# Altium schematic symbol library h_sensor_safety.SchLib: 56 symbols
Pins are listed as number, name and electrical type; pins without a type are passive.

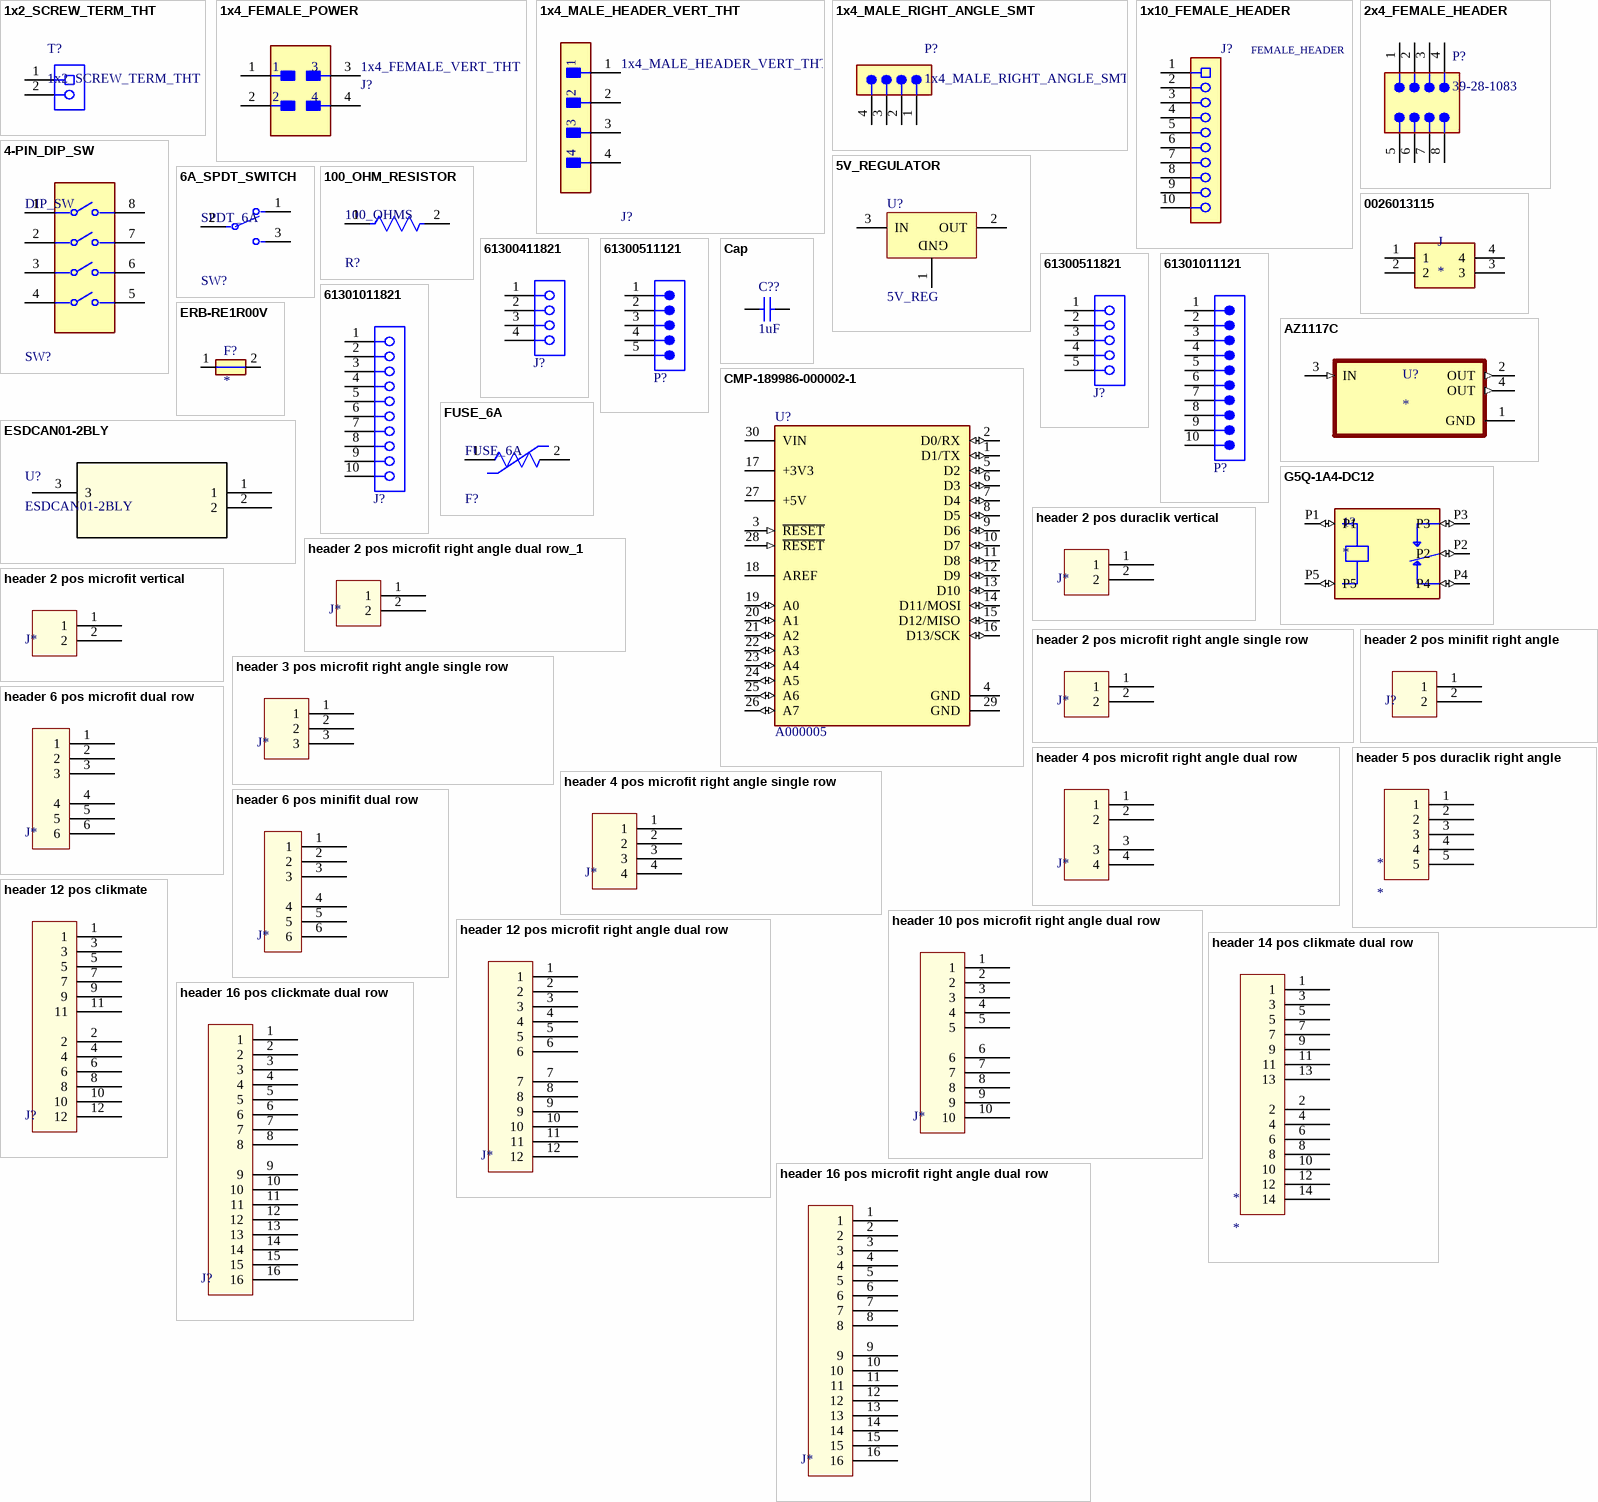
[diagram p0: symbols 1x2_SCREW_TERM_THT to header 16 pos microfit right angle dual row]

## 1x2_SCREW_TERM_THT
designator T?
PCB Terminal Block, 13.5 A, 400 V, 2-Pin THD, RoHS, Bulk. CMP-2000-05815-1. 1729128; Manufacturer: Phoenix Contact; Package Version: 03/2015; No. of Rows: 1; Pitch: 5.08mm; No. of Positions: 2; Voltage Rating: 400V; Current Rating: 13500mA; Packing: Bulk; Manufacturer URL: http://www.phoenixcontact.com/; Datasheet URL: https://datasheet.ciiva.com/16046/1729128-16046181.pdf; RoHS: TRUE; Package URL: https://www.phoenixcontact.com/online/portal/pi/pxc/product_detail_page/!ut/p/b1/3VdJjqNKFDxLH8AFycySyWY2ozFsEPOMMQaDOX1XedGL_1Vdm5YXJleknhSKeBkvI6EA8ncAo3AYoDhBQGco6KN7VURTdemj9us_IEKEZo_YHiPAEWEFmDGOHMORkqKYCORBZxgL7ZoaZYcbFFUZ3fqxSY6GOuxydWUuHqz1ynmMFygu583Bob0Ewr6Sd_l-5m-kAueHiB0jpRwZwe58wwtkpxtMYd_LmGcDRU02dRNEyWt6Y2ti5pSyJ_reIkzIulrqApdnbT11V5jnCKbYNCvhEM1MCpPByat_X379-iThf08CI5GfOPqfBeS3BRoBOdD55AKVv0iLwCMq-2BrzXWSGRH7pUGD9uwXQjiph3xL0DKQwdGa0JImiIOmBNOestqgwTHSSs2oOep-78apyXQBvNi8ZLaFjvjWvcaUEBu0MC6Wbe-d6mB0FAebo2lUWinqYaZs5DAYzV0RP9yitUjnGJ0iI9xhZkT42OCQNUJJhkgWINNQLP2JFP6OpMg3JCVg70jqHT0lvKOnhHf0lPuOnnLf0VPuWx6_dxwUIvwk5WMkT0kLL1mh61l2yZVSzG3pYV_bqo-mj6uMKwKwdnnW8Jh5RTOJzMOA5c-eJDaZQw4mTMPH02PvS_ZAqNVjVTo2WyYLkwH_KU1mmmG5kjRhDqPXLwwVHvVOjCM60-fpXvTDfMGW1PVFVS1r4e4yVDk4ZdNbkUHvqPqQSeian4UD39fNKmachqdJ1NJbyk8rXT9mXTvPk3oE5meulKGgiruPJek-4I9hTT6G8ZLOyRSm2RRVbThERQad5OS28hdt4YW4vG0stgYYzsWsK4_7y6DZMjJSCqri1kyiZR5vD7pwIrNR7QwPHTcLTI5qT7eRlpHrdGiupYlqQDJ7zy_CND8fWWBoLRXxk1RVcXiBQwbTD4Xi7KL-FuO94t9xaqweXzH; PartNumber: 1729128; Package Description: 2-Pin Through Hole Device, Body 8.1 x 10.16 mm, Pitch 5.08 mm; Datasheet Version: 12/2013; Mounting Technology: ThroughHole; Orientation: Horizontal; Package Reference: 1729128-2
footprint PHOE-1729128-2_V (Receptacle, 2-Leads, Body 8.1x10.16mm, Pitch 5.08mm)
pins: 1, 2

## 1x4_FEMALE_POWER
designator J?, comment 1x4_FEMALE_VERT_THT
CONN HEADER VERT 4POS 4.2MM. 0039281043; Manufacturer: Molex; Conn Orientation: Vertical; Conn Gender: Male; Current Rating: 9A; Voltage Rating: 600V; Number Of Contacts: 4; Pitch: 4.2mm; Manufacturer Part Number: 0039281043; Lead Free: Yes; Category: Conn; Height: 13.1mm; ComponentLink2URL: https://www.molex.com/webdocs/datasheets/pdf/en-us/0039281043_PCB_HEADERS.pdf; Package: 0; Device Class L2: Headers and Wire Housings; Contact Material: Tin; Footprint Url: https://www.molex.com/pdm_docs/sd/039281043_sd.pdf; Device Class L1: Connectors; Temperature Range High: +105°C; Automotive: No; RoHS: TRUE; Temperature: -40°C to +105°C; Number Of Rows: 2; Digikey Description: CONN HEADER VERT 4POS 4.2MM; Temperature Range Low: -40°C; Octopart: https://octopart.com/39-28-1043-molex-7613; Device Class L3: unset; ComponentLink2Description: Datasheet
footprint FP-0039281043-MFG
pins: 1, 2, 3, 4

## 1x4_MALE_HEADER_VERT_THT
designator J?
CONN HEADER VERT 4POS 2.54MM. CMP-04776-000290-1. 47053-1000; Number of Positions: 4; Voltage Rating (DC): 250V; Gender: Male; Pitch: 2.54mm; Current Rating: 4A; Glow Wire Compliant: Non-compliant; Contact Material: Brass; Contact Plating: Tin; Radiation Hardening: No; Package Quantity: 12000; Packaging: Bulk; Termination: Through Hole; Depth: 5.84mm; Series: 47053; Number of Contacts: 4; Length: 10.2mm; Halogen Free: Low Halogen; Number of Circuits: 4; Max Operating Temperature: 75°C; Housing Color: Beige; Min Operating Temperature: 0°C; Number of Rows: 1; Housing Material: Nylon; Orientation: Vertical; Mount: Through Hole; Voltage Rating: 250V; ComponentLink1Description: Datasheet; ComponentLink1URL: https://www.molex.com/pdm_docs/sd/470531000_sd.pdf
footprint FP-47053-1000-MFG
pins: 1, 2, 3, 4

## 1x4_MALE_RIGHT_ANGLE_SMT
designator P?
NEOPIXEL_FANLIGHT. 0.025" SQ Post Header, Surface Mount, Horizontal, -55 to 125 degC, 2.54 mm Pitch, 4-Pin, Male, RoHS. TSM-104-01-L-SH; Manufacturer: Samtec; Pitch: 2.54 mm; Orientation: Horizontal; DatasheetVersion: F-214; PackageVersion: CD, 7/1991; Temperature Range: -55 to 125 degC; ComponentLink2URL: http://www.samtec.com/documents/webfiles/pdf/TSM.PDF; ComponentLink3URL: http://www.samtec.com/documents/webfiles/cpdf/TSM-1XX-XX-XXX-SH-XX-XXX-XX-MKT1.pdf; PartNumber: TSM-104-01-L-SH; ComponentLink2Description: Datasheet; ComponentLink3Description: Package Specification; PackageReference: TSM-104-01-X-SH; PackageDescription: Terminal Strip Single Surface Mount; ComponentLink1Description: Manufacturer URL; RoHS: True; Mounting Technology: Surface Mount; ComponentLink1URL: http://www.samtec.com
footprint SMTC-TSM-104-01-X-SH (Terminal Strip Single Surface Mount, 1x4 Pins, Horizontal, 2.54mm Pitch, Male)
pins: 1, 2, 3, 4

## 1x10_FEMALE_HEADER
designator J?, comment FEMALE_HEADER
THT Vertical Socket Header WR-PHD, Pitch 2.54 mm, Single Row, 10 pins. CMP-1502-01332-1. 61301011821; Manufacturer: Wurth Elektronik; Rated Current: 3A; Working Voltage: 250VAC; Gender: Female; Pitch: 2.54mm; Contact Resistance: 20mOhm; Pin Number: 10; Withstanding Voltage: 500VAC; Publisher: WurthElektronik; Orientation: Vertical; Row Number: Single; Package Reference: 61301011821; Packaging: Tray; Datasheet URL: https://katalog.we-online.de/em/datasheet/6130xx11821.pdf; Operating Temperature: -40to125degC; Part Number: 61301011821; Manufacturer URL: http://www.we-online.de; Mounting Technology: THT
footprint 61301011821 (Socket Header, Pitch 2.54 mm, THT, Vertical, single row, 10p)
pins: 1, 2, 3, 4, 5, 6, 7, 8, 9, 10

## 2x4_FEMALE_HEADER
designator P?, comment 39-28-1083
4.2 mm Pitch Mini-Fit Jr.Power Connector, Vertical, Through Hole, 8 Circuits, -40 to 105 degC, RoHS, Bag. CMP-1594-00002-1; No. of Rows: 2; Pitch: 4.2 mm; No. of Positions: 8; Packing: Bag; Temperature Max: 105 degC; Orientation: Vertical; ComponentLink3Description: Package Specification; Mounting Technology: Surface Mount; PartNumber: 39-28-1083; ComponentLink1Description: Manufacturer URL; ComponentLink2Description: Datasheet; PackageVersion: Rev. F, 06/2009; Temperature Min: -40 degC; RoHS: TRUE; ComponentLink2URL: http://www.molex.com/webdocs/datasheets/pdf/en-us/0039281083_PCB_HEADERS.pdf; ComponentLink3URL: http://www.molex.com/pdm_docs/sd/039281083_sd.pdf; ComponentLink1URL: http://www.molex.com/; PackageDescription: 8-Pin PCB Header, Vertical, Pitch 4.2 mm, Through Hole
footprint MOLX-39-28-1083_V (PCB Header, 8-Leads, Vertical, Pitch 4.2 mm, Through Hole)
pins: 1, 2, 3, 4, 5, 6, 7, 8

## 4-PIN_DIP_SW
designator SW?, comment DIP_SW
SWITCH SLIDE DIP SPST 100MA 24V. CMP-03400-000022-1. 1825360-3; Max Voltage Rating (DC): 24V; Washable: Yes; Contact Current Rating: 1A; Electrical Life: 1000Cycles; Number of Circuits: 4; Pitch: 0.1inch; Actuator Length: 0.99mm; Contact Resistance: 50mR; Actuator Type: Standard; Contact Post Length: 4mm; Voltage Rating (DC): 5V; Actuator Material: Polybutylene; Sealable: No (Without); Throw Configuration: SPST; Mount: Through Hole; Type: Switch; RoHS Compliant: Yes; Min Operating Temperature: -30°C; Max Operating Temperature: 85°C; Orientation: Straight; Packaging: Rail/Tube; Series: ADE; Lead Free: Lead Free; Depth: 7.49mm; Flammability Rating: UL94 V-0; Radiation Hardening: No; Terminal Pitch: 2.54mm; Package Quantity: 35; Contact Material: Copper Alloy; Housing Color: Black; Number of Positions: 4; Length: 0.476inch; ELV: Compliant; Termination: PC Pins; Housing Material: Polyphenylene; Contact Plating: Gold; Max Current Rating: 100mA; Height: 0.138inch; ComponentLink1Description: Datasheet; ComponentLink1URL: https://www.ctscorp.com/wp-content/uploads/209-210.pdf
footprint FP-1825360-3-MFG
pins: 1, 2, 3, 4, 5, 6, 7, 8

## 5V_REGULATOR
designator U?, comment 5V_REG
3A, Low Drop Positive Voltage Regulator, 5V, 3-Pin TO-220. CMP-0244-00494-1. LD1085V50; ComponentLink1URL: http://www.st.com; PackageDescription: TO, Thru-Hole, Vertical, Heatsink Mounted; 3 In-Line Leads; Pitch 2.54 mm; DatasheetVersion: 28/07/2009; PackageVersion: ver3.0; ComponentLink2URL: https://www.st.com/content/ccc/resource/technical/document/datasheet/d3/84/d5/f6/3c/23/40/7b/CD00001883.pdf/files/CD00001883.pdf/jcr:content/translations/en.CD00001883.pdf; ComponentLink1Description: Manufacturer URL; PackageReference: TO220; ComponentLink2Description: Datasheet; ComponentLink3URL: http://www.st.com/internet/com/TECHNICAL_RESOURCES/TECHNICAL_LITERATURE/PACKAGE_INFORMATION/CD00004649.pdf; ComponentLink3Description: Package Specification
footprint TO220 (TO, Thru-Hole, Vertical, Heatsink Mounted; 3 In-Line Leads; Pitch 2.54 mm)
pins: 1 GND (power), 2 OUT (power), 3 IN (power)

## 6A_SPDT_SWITCH
designator SW?, comment SPDT_6A
SWITCH SLIDE SPDT 6A 120V. CMP-10038-000019-1. 1101M2S3CQE2; Switch Travel: 2.16mm; Number of Positions: 3; Number of Poles: 1; Approvals: UL; Actuator Length: 5.08mm; Voltage Rating (DC): 28V; Max Voltage Rating (AC): 250V; Insulation Resistance: 1GR; Body Material: Stainless Steel; Actuator Type: Standard; Contact Resistance: 10mR; Voltage Rating (AC): 120V; Switch Function: On-On; Actuator Material: Nylon; Actuator Color: Black; Electrical Life: 40000Cycles; Termination: PC Pins; Packaging: Bulk; Housing Material: Stainless Steel; Flammability Rating: UL94 V-0; Series: 1000; Contact Current Rating: 6A; Length: 12.7mm; Depth: 6.6mm; Orientation: Vertical; Max Current Rating: 6A; Max Operating Temperature: 65°C; Throw Configuration: SPDT; REACH SVHC: No SVHC; Contact Material: Copper; Max Voltage Rating (DC): 28V; Lead Free: Lead Free; Current Rating: 6A; Contact Plating: Silver; Package Quantity: 1; Min Operating Temperature: -30°C; Mount: Through Hole
footprint FP-1101M2S3CQE2-MFG
pins: 1, 2 COMM, 3

## 100_OHM_RESISTOR
designator R?, comment 100_OHMS
RES Thick Film, 100Ω, 1%, 0.063W, 100ppm/°C, 0402. CMP-1011-00397-3. CRCW0402100RFKED; Max Power Dissipation: 63mW; Voltage Rating: 50V; Resistance: 100R; Package Quantity: 10; Lead Free: Lead Free; Termination: SMD/SMT; Case Code (Metric): 1005; Number of Terminations: 2; Composition: Thick Film; Voltage Rating (DC): 50V; Min Operating Temperature: -55°C; Case/Package: 0402; Radiation Hardening: No; Max Operating Temperature: 155°C; Temperature Coefficient: 100ppm/°C; Military Standard: Not; Length: 1mm; Mount: Surface Mount; Power Rating: 63mW; Weight: 2.3E-05oz; Working Voltage: 50V; Features: Automotive AEC-Q200; Depth: 0.5mm; Packaging: Tape and Reel; Tolerance: 1%; Height: 0.35mm; Case Code (Imperial): 0402; Width: 0.02inch; Contact Plating: Tin
footprint FP-CRCW0402-e3-IPC_B
pins: 1, 2

## 0026013115
designator J
Connector Header Through Hole, Right Angle 4 position 0.165 (4.20mm); MP: 0026013115; MF: Molex; Package: None; DigiKey-Purchase-URL: https://snapeda.com/shop?store=DigiKey&id=2597941; Value: *; SnapEDA_Link: https://www.snapeda.com/parts/0026013115/Molex/view-part/2597941/?ref=snap; Price: None; Availability: Unavailable
footprint MOLEX_0026013115
pins: 1, 2, 3, 4

## 61300411821
designator J?  (value not drawn)
WR-PHD Socket Header, THT, Vertical, pitch 2.54mm, 1 Row, 4P; Manufacturer: Wurth Elektronik; Contact Resistance: 20mOhm; Rated Current: 3A; Working Voltage: 250V; Withstanding Voltage: 500V; Manufacturer Part Number: 61300411821; Category: Board-to-Board Connectors; Match Code: WR-PHD; ComponentLink1Description: Website Link; ComponentLink1URL: https://www.we-online.com/redexpert/article/61300411821?ad; ComponentLink2Description: Datasheet Link; ComponentLink2URL: https://www.we-online.com/redexpert/spec/61300411821?ad; Mount: Through Hole; Operating Temperature Max: 125°C; Operating Temperature Min: -40°C; Packaging: Tray; Gender: Socket Header; Number of Pins: 4; Number of Rows: 1; Orientation: Vertical; Pitch: 2.54mm
footprint 61300411821
pins: 1, 2, 3, 4

## 61300511121
designator P?  (value not drawn)
WR-PHD Pin Header, THT, Vertical, pitch 2.54mm, 1 Row, 5P; Manufacturer: Wurth Elektronik; Contact Resistance: 20mOhm; Rated Current: 3A; Working Voltage: 250V; Withstanding Voltage: 500V; Manufacturer Part Number: 61300511121; Category: Board-to-Board Connectors; Match Code: WR-PHD; ComponentLink1Description: Website Link; ComponentLink1URL: https://www.we-online.com/redexpert/article/61300511121?ad; ComponentLink2Description: Datasheet Link; ComponentLink2URL: https://www.we-online.com/redexpert/spec/61300511121?ad; Mount: Through Hole; Operating Temperature Max: 105°C; Operating Temperature Min: -40°C; Packaging: Bag; Gender: Pin Header; Number of Pins: 5; Number of Rows: 1; Orientation: Vertical; Pitch: 2.54mm
footprint 61300511121
pins: 1, 2, 3, 4, 5

## 61300511821
designator J?  (value not drawn)
WR-PHD Socket Header, THT, Vertical, pitch 2.54mm, 1 Row, 5P; Manufacturer: Wurth Elektronik; Contact Resistance: 20mOhm; Rated Current: 3A; Working Voltage: 250V; Withstanding Voltage: 500V; Manufacturer Part Number: 61300511821; Category: Board-to-Board Connectors; Match Code: WR-PHD; ComponentLink1Description: Website Link; ComponentLink1URL: https://www.we-online.com/redexpert/article/61300511821?ad; ComponentLink2Description: Datasheet Link; ComponentLink2URL: https://www.we-online.com/redexpert/spec/61300511821?ad; Mount: Through Hole; Operating Temperature Max: 125°C; Operating Temperature Min: -40°C; Packaging: Tray; Gender: Socket Header; Number of Pins: 5; Number of Rows: 1; Orientation: Vertical; Pitch: 2.54mm
footprint 61300511821
pins: 1, 2, 3, 4, 5

## 61301011121
designator P?  (value not drawn)
WR-PHD Pin Header, THT, Vertical, pitch 2.54mm, 1 Row, 10P; Manufacturer: Wurth Elektronik; Contact Resistance: 20mOhm; Rated Current: 3A; Working Voltage: 250V; Withstanding Voltage: 500V; Manufacturer Part Number: 61301011121; Category: Board-to-Board Connectors; Match Code: WR-PHD; ComponentLink1Description: Website Link; ComponentLink1URL: https://www.we-online.com/redexpert/article/61301011121?ad; ComponentLink2Description: Datasheet Link; ComponentLink2URL: https://www.we-online.com/redexpert/spec/61301011121?ad; Mount: Through Hole; Operating Temperature Max: 105°C; Operating Temperature Min: -40°C; Packaging: Bag; Gender: Pin Header; Number of Pins: 10; Number of Rows: 1; Orientation: Vertical; Pitch: 2.54mm
footprint 61301011121 (Pin Header, pitch 2.54 mm, THT, Vertical, single row, 10p)
pins: 1, 2, 3, 4, 5, 6, 7, 8, 9, 10

## 61301011821
designator J?  (value not drawn)
WR-PHD Socket Header, THT, Vertical, pitch 2.54mm, 1 Row, 10P; Manufacturer: Wurth Elektronik; Contact Resistance: 20mOhm; Rated Current: 3A; Working Voltage: 250V; Withstanding Voltage: 500V; Manufacturer Part Number: 61301011821; Category: Board-to-Board Connectors; Match Code: WR-PHD; ComponentLink1Description: Website Link; ComponentLink1URL: https://www.we-online.com/redexpert/article/61301011821?ad; ComponentLink2Description: Datasheet Link; ComponentLink2URL: https://www.we-online.com/redexpert/spec/61301011821?ad; Mount: Through Hole; Operating Temperature Max: 105°C; Operating Temperature Min: -40°C; Packaging: Tray; Gender: Socket Header; Number of Pins: 10; Number of Rows: 1; Orientation: Vertical; Pitch: 2.54mm
footprint 61301011821
pins: 1, 2, 3, 4, 5, 6, 7, 8, 9, 10

## AZ1117C
designator U?
5 V LDO; MF: Analog Devices; MP: ADP3338AKCZ-5-REEL; Package: SOT-223-3 Analog Devices; Value: *; Purchase-URL: https://pricing.snapeda.com/search/part/ADP3338AKCZ-5-REEL/?ref=eda; Digi-Key_Part_Number: 505-ADP3338AKCZ-5-REELTR-ND; SnapEDA_Link: https://www.snapeda.com/parts/ADP3338AKCZ-5-REEL/Analog+Devices/view-part/?ref=snap; Check_prices: https://www.snapeda.com/parts/ADP3338AKCZ-5-REEL/Analog+Devices/view-part/?ref=eda
footprint SOT230P700X185-4N
pins: 1 GND (power), 2 OUT (out), 3 IN (in), 4 OUT (out)

## Cap
designator C??  value 1uF  (hidden comment: Cap)
SMD Capacitor; Published: 8-Jun-2000; LatestRevisionDate: 17-Jul-2002; LatestRevisionNote: Re-released for DXP Platform.; PackageReference: RAD-0.3; Publisher: Altium Limited; PackageDescription: Radial Cap, Thru-Hole; 2 Leads; 0.3 in Pin Spacing
footprint 0603c
footprint 0805
footprint 1206
pins: 1, 2

## CMP-189986-000002-1
designator U?, comment A000005
ARDUINO NANO ATMEGA328 EVAL BRD; Number of Bits: 8; Evaluation Kit: Yes; Operating Supply Voltage: 12V; Interface: I2C; Data Bus Width: 8b; Core Architecture: AVR; Packaging: Bulk; Length: 7inch; Package Quantity: 50; Width: 5inch; REACH SVHC: No SVHC; Weight: 0.358383oz; Series: AVR® ATmega; Height: 0.25inch; Manufacturer: Arduino; Manufacturer Part Number: A000005; ComponentLink1Description: Datasheet; ComponentLink1URL: https://docs.arduino.cc/static/2d169cbfd360faf817882e36b9f69956/A000005-datasheet.pdf
footprint FP-A000005-MFG
pins: 1 D1/TX (io), 2 D0/RX (io), 3 ~{RESET} (in), 4 GND (power), 5 D2 (io), 6 D3 (io), 7 D4 (io), 8 D5 (io), 9 D6 (io), 10 D7 (io), 11 D8 (io), 12 D9 (io), 13 D10 (io), 14 D11/MOSI (io), 15 D12/MISO (io), 16 D13/SCK (io), 17 +3V3 (power), 18 AREF, 19 A0 (io), 20 A1 (io), 21 A2 (io), 22 A3 (io), 23 A4 (io), 24 A5 (io), 25 A6 (io), 26 A7 (io), 27 +5V (power), 28 ~{RESET} (in), 29 GND (power), 30 VIN (power)

## ERB-RE1R00V
designator F?
Micro Chip Fuse, Size [LÃ—W] (EIA) (mm): 1.6Ã—0.8 (EIA:0603), Rated Current (A): 1, Internal R [at 25â„ƒ max.] (mâ„¦): 125, Rated Voltage (Open Circuit Voltage) [DC] (V): 32, Interrupting Rating (A): 50, Category Temp. Range (Â°C): -40 to +125; MP: ERB-RE1R00V; MF: Panasonic; Package: 0603 Panasonic Electronic Components; Check_prices: https://www.snapeda.com/parts/ERB-RE1R00V/Panasonic/view-part/?ref=eda; Purchase-URL: https://pricing.snapeda.com/search/part/ERB-RE1R00V/?ref=eda; Value: *; Availability: In Stock; Price: None; SnapEDA_Link: https://www.snapeda.com/parts/ERB-RE1R00V/Panasonic/view-part/?ref=snap
footprint FUSC1608X64N
pins: 1, 2

## ESDCAN01-2BLY
designator U?
Mfr_Name: STMicroelectronics; Copyright: Copyright (C) 2023 Ultra Librarian. All rights reserved.; Manufacturer_Part_Number: ESDCAN01-2BLY; RefDes: RefDes; Type: DEV
footprint SOT_01-2BLY_STM
pins: 1, 2, 3

## FUSE_6A
designator F?
PTC RESET FUSE 60V 3A RADIAL. CMP-16043-000003-1; Trip Current: 6A; Time to Trip: 19.8s; Max Current Rating: 40A; Approvals: UL; Min Operating Temperature: -40°C; Case/Package: Radial; Mount: Through Hole; Hold Current: 3A; Max Operating Temperature: 85°C; ComponentLink1Description: Datasheet; ComponentLink1URL: https://www.belfuse.com/resources/datasheets/circuitprotection/ds-cp-0zre-series.pdf
footprint FP-0ZRP0300FF1A-MFG
pins: 1, 2

## G5Q-1A4-DC12
designator 1?
General Purpose Relay Ã¢â‚¬Â¢ Coil Voltage: 12 VDC Ã¢â‚¬Â¢ Contact Configuration: 1A SPST-NO Ã¢â‚¬Â¢ Current : 10 Amps Ã¢â‚¬Â¢ Mounting : PC Board Ã¢â‚¬Â¢ Operating Function: Single Side Stable; MF: Omron Electronics; MP: G5Q-1A4-DC12; SnapEDA_Link: https://www.snapeda.com/parts/G5Q-1A4-DC12/Omron+Electronics+Inc-EMC+Div/view-part/?ref=snap; Package: None; Value: *; Check_prices: https://www.snapeda.com/parts/G5Q-1A4-DC12/Omron+Electronics+Inc-EMC+Div/view-part/?ref=eda
footprint G5Q-1A4-DC12
pins: P1 (io), P2 (io), P3 (io), P4 (io), P5 (io)

## header 2 pos duraclik vertical
designator J*  (value not drawn)
Supplier 1: Digi-Key; Supplier Part Number 1: WM10862CT-ND
footprint 5600200220 duraclik 2 pos (molex duraclik 2 pos)
pins: 1, 2

## header 2 pos microfit right angle dual row_1
designator J*  (value not drawn)
Supplier 1: Digi-Key; Supplier Part Number 1: WM1813-ND
footprint 0430450200 MICROFIT 2 POS RIGHT ANGLE DUAL ROW
pins: 1, 2

## header 2 pos microfit right angle single row
designator J*  (value not drawn)
Supplier 1: Digi-Key; Supplier Part Number 1: WM1865-ND
footprint 0436500201 MICROFIT 2 POS RIGHT ANGLE SINGLE ROW
pins: 1, 2

## header 2 pos microfit vertical
designator J*  (value not drawn)
Supplier 1: Digi-Key; Supplier Part Number 1: WM14300CT-ND
footprint 0430450215 MICROFIT 2 POS VERTICAL METAL PEGS (molex microfit 2 pin vertical)
pins: 1, 2

## header 2 pos minifit right angle
designator J?  (value not drawn)
Supplier 1: Digi-Key; Supplier 2: Digi-Key; Supplier Part Number 1: WM21351-ND; Supplier Part Number 2: WM16570-ND
footprint 0039300020 minifit 2 pos
pins: 1, 2

## header 3 pos microfit right angle single row
designator J*  (value not drawn)
Supplier 1: Digi-Key; Supplier Part Number 1: WM1865-ND
footprint 0436500301 MICROFIT 3 POS RIGHT ANGLE SINGLE ROW
pins: 1, 2, 3

## header 4 pos microfit right angle dual row
designator J*  (value not drawn)
Supplier 1: Digi-Key; Supplier Part Number 1: WM3248-ND
footprint 0430450401 microfit 4 pos dual row (microfit 4 pos dual row plastic board lock pegs)
pins: 1, 2, 3, 4

## header 4 pos microfit right angle single row
designator J*  (value not drawn)
Supplier 1: Digi-Key; Supplier Part Number 1: WM1865-ND
footprint 0436500401 MICROFIT 4 POS RIGHT ANGLE SINGLE ROW
pins: 1, 2, 3, 4

## header 5 pos duraclik right angle
designator *
footprint 5600200521 - duraclik 5 pos right angle (molex duraclik 5 pos horizontal entry)
pins: 1, 2, 3, 4, 5

## header 6 pos microfit dual row
designator J*  (value not drawn)
Supplier 1: Digi-Key; Supplier Part Number 1: WM16234-ND
footprint 430450600 microfit 6 pos (microfit 6 pos plastic board lock pegs)
pins: 1, 2, 3, 4, 5, 6

## header 6 pos minifit dual row
designator J*  (value not drawn)
Supplier 1: Digi-Key; Supplier Part Number 1: WM16234-ND
footprint 0026013116 minifit 6 pos (right angle 6 pos minifit connector)
pins: 1, 2, 3, 4, 5, 6

## header 10 pos microfit right angle dual row
designator J*  (value not drawn)
Supplier 1: Digi-Key; Supplier Part Number 1: WM1823-ND
footprint 0430451001 microfit 10 pos (microfit 10 pos plastic board lock pegs)
pins: 1, 2, 3, 4, 5, 6, 7, 8, 9, 10

## header 12 pos clikmate
designator J?  (value not drawn)
Supplier 1: Digi-Key; Supplier Part Number 1: WM14479CT-ND
footprint 5031541290 CLIKMATE 12 POS VERTICAL DUAL ROW
pins: 1, 2, 3, 4, 5, 6, 7, 8, 9, 10, 11, 12

## header 12 pos microfit right angle dual row
designator J*  (value not drawn)
Supplier 1: Digi-Key; Supplier Part Number 1: WM7489-ND
footprint 0430451201 microfit 12 pos (microfit 12 pos plastic board lock pegs)
pins: 1, 2, 3, 4, 5, 6, 7, 8, 9, 10, 11, 12

## header 14 pos clikmate dual row
designator *
Supplier 1: Digi-Key; Supplier 2: Digi-Key; Supplier Part Number 1: WM24266CT-ND; Supplier Part Number 2: WM20822-ND
footprint 5031541290 CLIKMATE 14 POS VERTICAL DUAL ROW
pins: 1, 2, 3, 4, 5, 6, 7, 8, 9, 10, 11, 12, 13, 14

## header 16 pos clickmate dual row
designator J?, comment header 16 pos dual row  (value not drawn)
Supplier 1: Digi-Key; Supplier 2: Digi-Key; Supplier Part Number 1: WM6871CT-ND; Supplier Part Number 2: WM13364-ND
footprint 5031541290 CLIKMATE 16 POS VERTICAL DUAL ROW
pins: 1, 2, 3, 4, 5, 6, 7, 8, 9, 10, 11, 12, 13, 14, 15, 16

## header 16 pos microfit right angle dual row
designator J*  (value not drawn)
Supplier 1: Digi-Key; Supplier Part Number 1: WM7490-ND
footprint 0430451601 microfit 16 pos (microfit 16 pos plastic board lock pegs)
pins: 1, 2, 3, 4, 5, 6, 7, 8, 9, 10, 11, 12, 13, 14, 15, 16

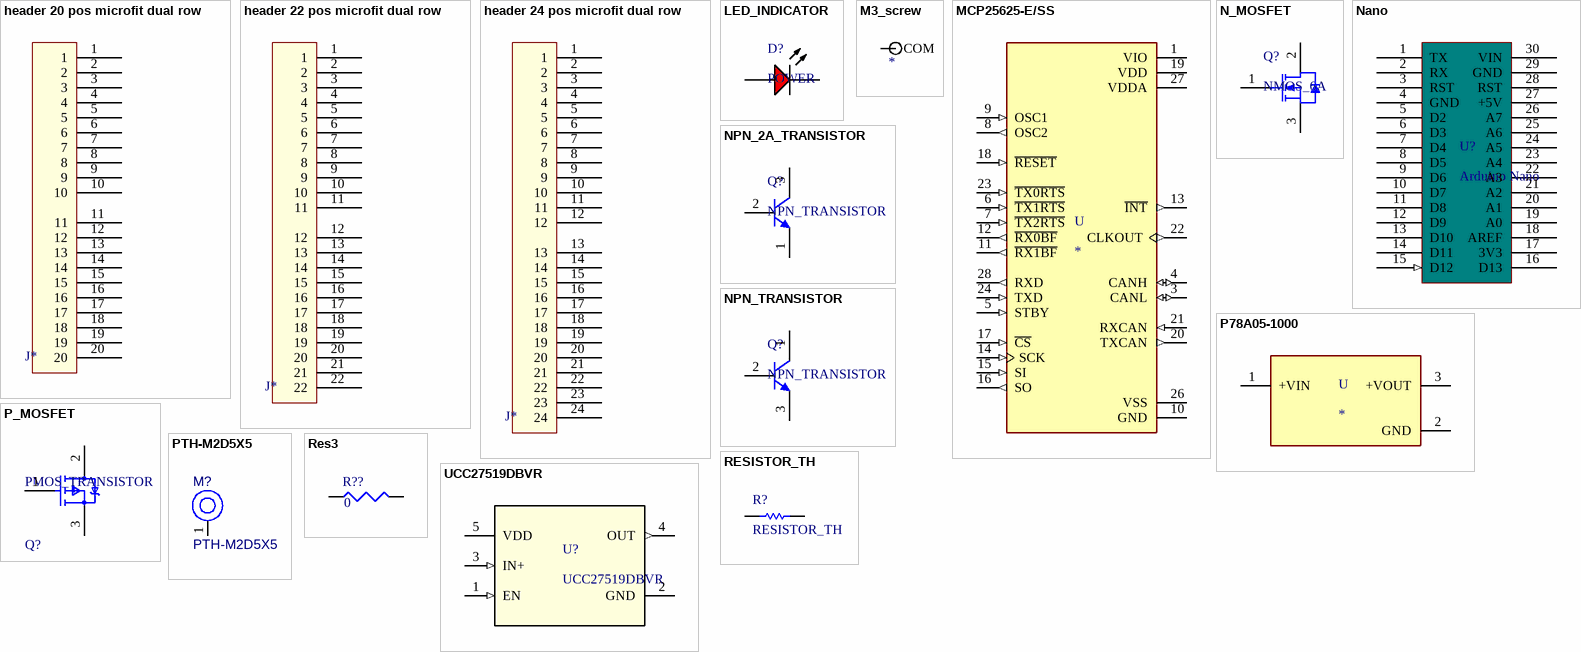
[diagram p1: symbols header 20 pos microfit dual row to UCC27519DBVR]

## header 20 pos microfit dual row
designator J*
Supplier 1: Digi-Key; Supplier 2: Digi-Key; Supplier 3: Digi-Key; Supplier Part Number 1: WM7492-ND; Supplier Part Number 2: WM24848-ND; Supplier Part Number 3: WM16667-ND
footprint 0430452001 microfit 20 pos (microfit 20 pos plastic board lock pegs)
pins: 1, 2, 3, 4, 5, 6, 7, 8, 9, 10, 11, 12, 13, 14, 15, 16, 17, 18, 19, 20

## header 22 pos microfit dual row
designator J*  (value not drawn)
Supplier 1: Digi-Key; Supplier 2: Digi-Key; Supplier Part Number 1: WM4061-ND; Supplier Part Number 2: WM24849-ND
footprint 0430452201 microfit 22 pos (microfit 22 pos plastic board lock pegs)
pins: 1, 2, 3, 4, 5, 6, 7, 8, 9, 10, 11, 12, 13, 14, 15, 16, 17, 18, 19, 20, 21, 22

## header 24 pos microfit dual row
designator J*
Supplier 1: Digi-Key; Supplier 2: Digi-Key; Supplier 3: Digi-Key; Supplier Part Number 1: WM14575-ND; Supplier Part Number 2: WM24850-ND; Supplier Part Number 3: WM16668-ND
footprint 0430452401 microfit 24 pos (microfit 24 pos plastic board lock pegs)
pins: 1, 2, 3, 4, 5, 6, 7, 8, 9, 10, 11, 12, 13, 14, 15, 16, 17, 18, 19, 20, 21, 22, 23, 24

## LED_INDICATOR
designator D?, comment POWER
T-1 3/4 (5 mm) Diffused LED Lamp, 1.9 V, -40 to 100 degC, 2-Pin THD, RoHS, Bulk, HLMP-3301; Manufacturer: Avago; Forward Current: 25mA; Forward Voltage: 2.4V; Peak Wavelength: 635nm; Shape Type: Circular; High Brightness: No; Main Category: StandardLED; Test Current (It): 10mA; Dominant Wave Length: 626nm; Number of  Elements: 1; Reverse Voltage: 5V; Chip Material: GaP; Product Height (mm): 9.19mm; Lens Type: ColoredDiffused; Viewing Angle: 60deg; Type: Uni-Color; Emitting Color: Red; Luminous Intensity: 5.4mcd; Power Dissipation: 85W; DELETED: Compliant; Product Depth (mm): 6.1mm; Package Description: 2-Pin Through Hole LED, Dia 5.85 mm; Mounting Technology: ThroughHole; Manufacturer URL: http://www.avagotech.com/; Package Type: T-13/4; Operating Temp Range: -40Cto100C; Datasheet URL: http://www.avagotech.com/docs/AV02-1558EN; Mounting: ThroughHole; Lens Dimensions: 5.08x5.08x8.3mm; Package Reference: HLMP-3301; Datasheet Version: 03/2015; Pin Count: 2; Packaging: TapeandReel; Operating Temperature Classification: Industrial; Lum Intensity: 5.4mcd; Rad Hardened: No; Product Length (mm): 6.1mm
footprint FP-HLMP-4700-MFG
pins: 1 K, 2 A

## M3_screw
designator TH?
footprint m3_w_tol_1p9 (Footprint not found)
pins: 0 COM

## MCP25625-E/SS
designator U
1/1 Transceiver CANbus 28-SSOP; MP: MCP25625-E/SS; MF: Microchip; Package: SSOP-28 Microchip; Availability: Unavailable; Value: *; SnapEDA_Link: https://www.snapeda.com/parts/MCP25625-E/SS/Microchip/view-part/51329/?ref=snap; Price: None
footprint SOP65P780X200-28N
pins: 1 VIO (power), 3 CANL (io), 4 CANH (io), 5 STBY (in), 6 ~{TX1RTS} (in), 7 ~{TX2RTS} (in), 8 OSC2 (out), 9 OSC1 (in), 10 GND (power), 11 ~{RX1BF} (out), 12 ~{RX0BF} (out), 13 ~{INT} (out), 14 SCK (in), 15 SI (in), 16 SO (out), 17 ~{CS} (in), 18 ~{RESET} (in), 19 VDD (power), 20 TXCAN (out), 21 RXCAN (in), 22 CLKOUT (out), 23 ~{TX0RTS} (in), 24 TXD (in), 26 VSS (power), 27 VDDA (power), 28 RXD (out)

## N_MOSFET
designator Q?, comment NMOS_6A
Power MOSFET, 500 V, -55 to 150 degC, 3-Pin FM, RoHS, Tape and Reel. CMP-2000-06467-1. IRF840PBF; Manufacturer: Vishay; Maximum Gate Source Voltage: ±20V; Channel Mode: Enhancement; Typical Gate Charge @ Vgs: 63nC@10V; Number of Elements per Chip: 1; Typical Turn-On Delay Time: 14ns; Typical Input Capacitance @ Vds: 1300pF@25V; Maximum Continuous Drain Current: 8A; Maximum Drain Source Voltage: 500V; Minimum Gate Threshold Voltage: 2V; Typical Turn-Off Delay Time: 49ns; Maximum Drain Source Resistance: 0.85Ω; Maximum Power Dissipation: 125W; Channel Type: N; Mounting Type: ThroughHole; Datasheet URL: https://datasheet.ciiva.com/26791/irf840pbf-26791500.pdf; Package Type: TO-220AB; Dimensions: 10.41x4.7x9.01mm; Category: PowerMOSFET; Width: 4.7mm; Datasheet Version: Rev. C, 03/2011; Maximum Operating Temperature: +150°C; Manufacturer URL: http://www.vishay.com/; Package Description: 3-Pin Flange Mount, Body 10.275 x 4.45 mm, Pitch 2.54 mm; Length: 10.41mm; Height: 9.01mm; Mounting Technology: ThroughHole; Package Reference: TO-220AB-3; Pin Count: 3; Minimum Operating Temperature: -55°C; Package URL: http://www.vishay.com/docs/71195/to220ab.pdf
footprint VISH-TO-220AB-3 (FM, 3-Leads, Body 10.55x4.65mm, Pitch 2.54mm)
pins: 1 G "gate", 2 D "drain", 3 S "source"

## Nano
designator U?, comment Arduino Nano
footprint FP-A000005-MFG
pins: 1 TX, 2 RX, 3 RST, 4 GND, 5 D2, 6 D3, 7 D4, 8 D5, 9 D6, 10 D7, 11 D8, 12 D9, 13 D10, 14 D11, 15 D12 (in), 16 D13, 17 3V3, 18 AREF, 19 A0, 20 A1, 21 A2, 22 A3, 23 A4, 24 A5, 25 A6, 26 A7, 27 +5V, 28 RST, 29 GND, 30 VIN

## NPN_2A_TRANSISTOR
designator Q?, comment NPN_TRANSISTOR
Amplifier Transistor, 3-Pin TO-92, Pb-Free, Ammo Box. CMP-1048-01542-1. MPS650ZL1G; Manufacturer: On Semiconductor; fT Min (MHz): 75; IC Continuous (A): 2; Polarity: NPN; ComponentLink1URL: http://www.onsemi.com/; Packing: Ammo Box; PackageReference: TO-92-3-29-11_AM_BL; Mounting Technology: Through Hole; RoHS: TRUE; ComponentLink1Description: Manufacturer URL; DatasheetVersion: Rev. 4; ComponentLink2Description: Datasheet; ComponentLink2URL: http://www.onsemi.cn/pub_link/Collateral/MPS650-D.PDF; PackageDescription: 3-Pin Transistor Outline, Body 4.825 x 3.685 mm, Pitch 1.27 mm; ComponentLink3URL: http://www.onsemi.com/pub_link/Collateral/MAC97-D.PDF; PackageVersion: Rev. AM; ComponentLink3Description: Package Specification; PartNumber: MPS650ZL1G
footprint ONSC-TO-92-3-29-11_AM_BL (TO, 3-Leads, Body Dia 4.7mm, Pitch 2.6mm)
pins: 1 E, 2 B, 3 C

## NPN_TRANSISTOR
designator Q?
Amplifier Transistor, NPN Silicon, 3-Pin TO-92, Pb-Free, Bulk Box. CMP-1048-01457-1. BC337-025G; Manufacturer: On Semiconductor; IC Continuous (A): 0.8; PartNumber: BC337-025G; ComponentLink2URL: https://www.diodes.com/assets/Datasheets/ZTX718.pdf; ComponentLink3Description: Package Specification; Packing: Bulk Box; PackageVersion: Rev. AM; DatasheetVersion: Rev. 8; ComponentLink3URL: http://www.onsemi.cn/pub_link/Collateral/2N6426-D.PDF; Polarity: NPN; PackageDescription: 3-Pin Transistor Outline, Body 4.825 x 3.685 mm, Pitch 1.27 mm; ComponentLink1Description: Manufacturer URL; PackageReference: TO-92-3-29-11_AM_SL; ComponentLink2Description: Datasheet; Mounting Technology: Through Hole; RoHS: TRUE; ComponentLink1URL: http://www.onsemi.com/
footprint ONSC-TO-92-3-29-11 (TO, 3-Leads, Body Dia 4.7mm, Pitch 1.27mm)
pins: 1 C, 2 B, 3 E

## P78A05-1000
designator U
1 A Output Current, 7~28 Vdc Input, 3 Pin SIP, Non-Isolated, Dc-Dc Converter; MP: P78A05-1000; MF: CUI Inc.; Price: None; SnapEDA_Link: https://www.snapeda.com/parts/P78A05-1000/CUI/view-part/2862486/?ref=snap; Availability: Unavailable; Value: *; Package: SIP-3
footprint CONV_P78A05-1000
pins: 1 +VIN (power), 2 GND (power), 3 +VOUT (power)

## P_MOSFET
designator Q?, comment PMOS_TRANSISTOR
MOSFET P-CH 55V 74A TO-220AB. CMP-32901-000200-1. IRF4905PBF; Drain to Source Resistance: 20mR; Input Capacitance: 3.4nF; Max Dual Supply Voltage: -55V; Power Dissipation: 200W; Turn-On Delay Time: 18ns; Element Configuration: Single; Threshold Voltage: -4V; Gate to Source Voltage (Vgs): 20V; Turn-Off Delay Time: 61ns; Number of Pins: 3; Packaging: Rail/Tube; RoHS Compliant: Yes; REACH SVHC: No SVHC; Halogen Free: Halogen Free; Max Power Dissipation: 200W; Drain to Source Breakdown Voltage: -55V; Length: 0.414inch; Drain to Source Voltage (Vdss): -55V; Height: 0.6inch; Case/Package: TO-220; Width: 0.185inch; Continuous Drain Current (ID): 74A; Mount: Through Hole; Min Operating Temperature: -55°C; Lead Free: Lead Free; Max Operating Temperature: 175°C; Rds On Max: 20mR; ComponentLink1Description: Datasheet; ComponentLink1URL: https://www.vishay.com/docs/91280/sihfr912.pdf
footprint FP-PG-TO220-3-MFG
pins: 1 GATE, 2 DRAIN, 3 SOURCE

## PTH-M2D5X5
designator M?
M2 PTH (2.5mm), 5mm pad; Pins: 1; Component Type: Mechanical
footprint PTH-M2D5X5
pins: 1 H1

## Res3
designator R??  value 0  (hidden comment: Res3)
SMD Resistor; Published: 8-Jun-2000; LatestRevisionDate: 29-May-2009; LatestRevisionNote: IPC-7351 Footprint Added.; PackageReference: J1-0603; Publisher: Altium Limited; PackageDescription: Chip Resistor
footprint 0603r
footprint 0805
footprint 1206
pins: 1, 2

## RESISTOR_TH
designator R?
Axial Resistor, 100 Ohm, +/- 1%, 0.25 W, -55 to 155 degC, 2-Pin THD, RoHS, Bulk. CMP-1659-00071-1. MFR-25FBF52-100R; Voltage Rating: 250 V; Resistance: 4.75 kohm; Power Rating: 250 mW; Type (Resistor): Metal Film; Package Quantity: 200; RoHSCompliant: true; ComponentLink1URL: http://www.yageo.com/; ComponentLink1Description: Manufacturer URL; Case\Package: Axial; ComponentLink2Description: Datasheet; Length: 0.248 inch; PackageReference: MFR-25; Max Operating Temperature: 155 degC; Min Operating Temperature: -55 degC; DatasheetVersion: Apr-13; Mount: Through Hole; PackageDescription: 2-Pin Axial Lead, Dia 2.4 mm, Body Length 6.3 mm; Packaging: Bulk; Tolerance: 1%; ComponentLink2URL: http://www.yageo.com/documents/recent/Yageo%20LR_MFR_2013.pdf
footprint FP-RR01-MFG
pins: 1, 2

## UCC27519DBVR
designator U?
Low side gate driver; Mfr_Name: Texas Instruments; Alternate_PartNumber: UCC27519DBVT; CompType: IC; Type: DEV; RefDes: RefDes; Copyright: Copyright (C) 2023 Ultra Librarian. All rights reserved.; Manufacturer_Part_Number: UCC27519DBVR; PartNumber: UCC27519DBVR; PackageReference: DBV0005A; MountType: SMT; RoHS: Y; Manufacturer: Texas Instruments
footprint DBV0005A_N
footprint SOT95P280X145-5N
pins: 1 EN (in), 2 GND (power), 3 IN+ (in), 4 OUT (out), 5 VDD (power)